# Altium footprint library 接口.PCBLIB: 266 footprints (part 10 of 17)
Each footprint in its own frame and in the unit in brackets; x right, y up, seen from the top. Pads: shape width x height; smd on the part's side, far side on the other; paste and mask are expansions set on the pad; w line width, h text height; cw(c..) or ccw(c..) is an arc to the next point about the centre after c.
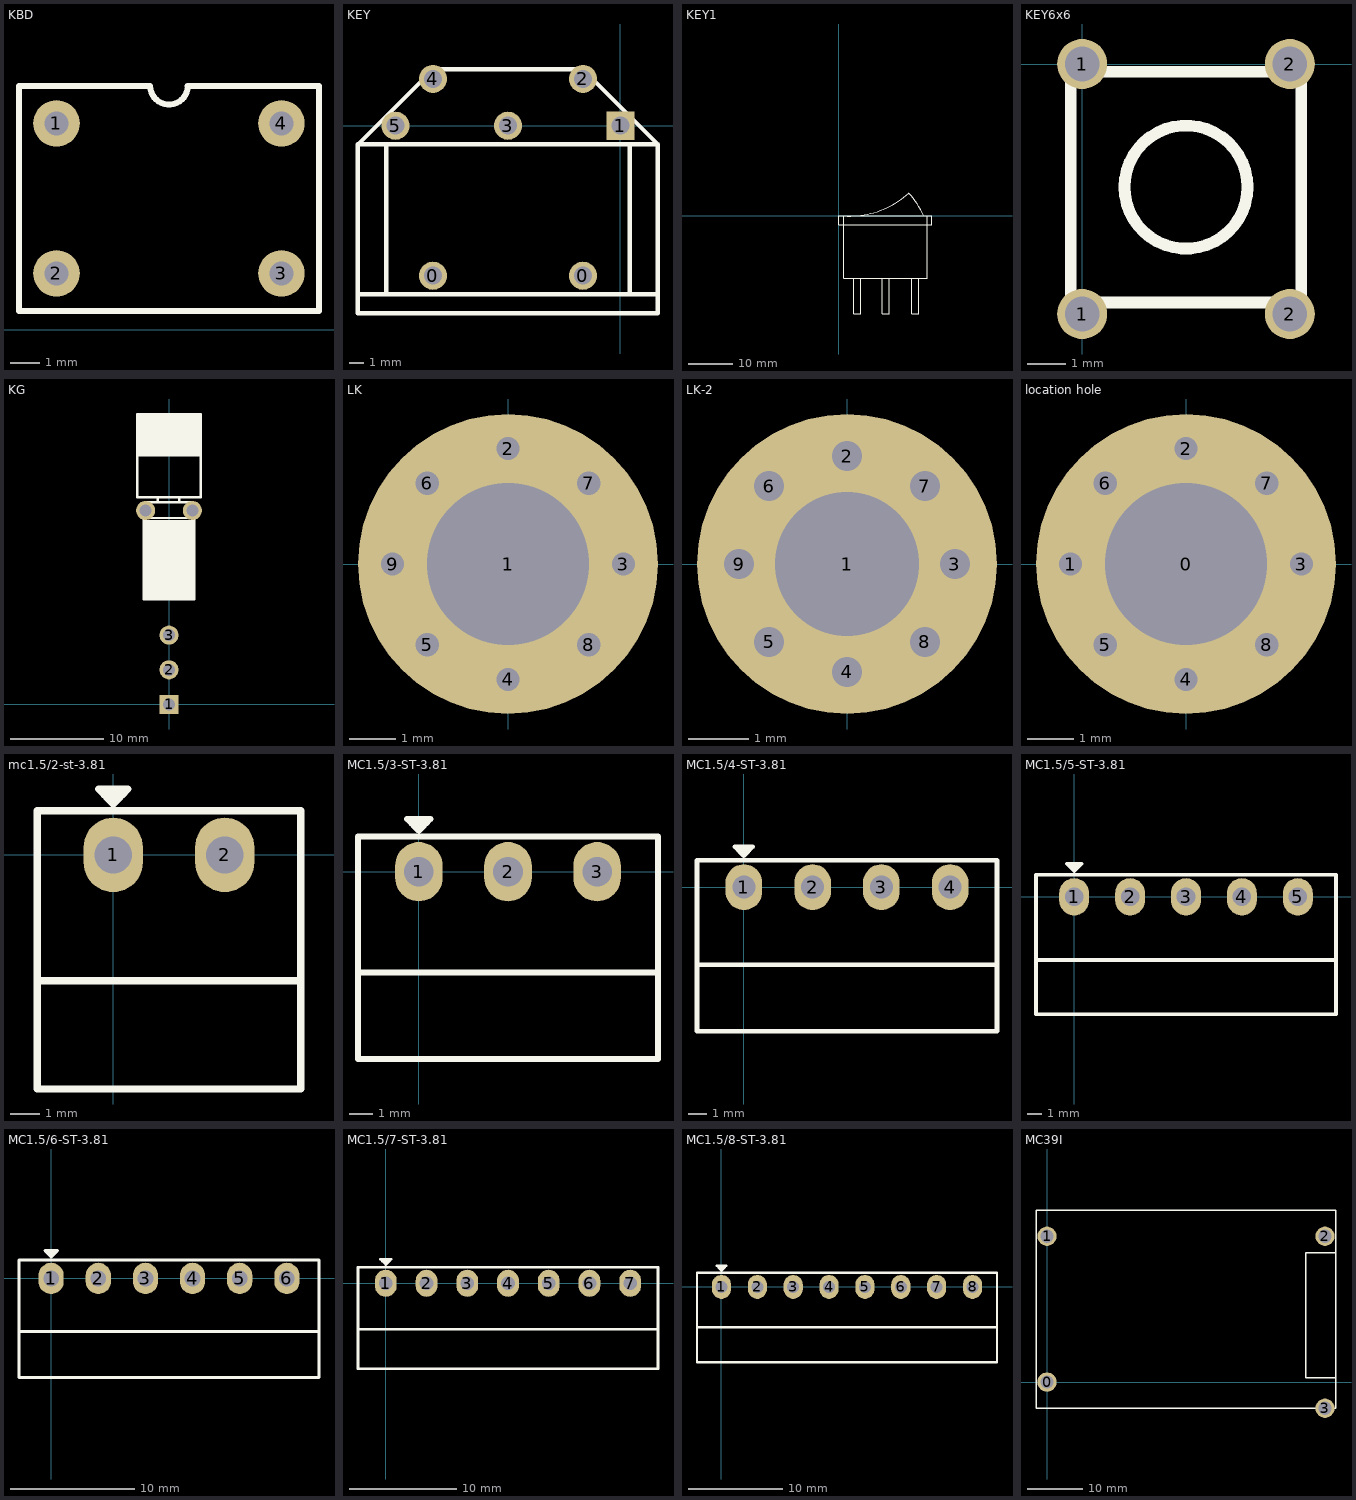
[diagram p9: the footprints below, top view; thin cyan lines are the x and y axes]

## KBD [mil]
pads (4):
  round 62 hole 32: 1(-375,275) 2(-375,75) 3(-75,75) 4(-75,275)
TopOverlay:
  lines w8: -425,25 -25,25 -25,325 -200,325 cw(c-225,325) -250,325 -425,325 -425,25

## KEY [mil]
pads (7):
  round 75 hole 48: 0(-500,-400) 0(-100,-400) 2(-100,125) 3(-300,0) 4(-500,125) 5(-600,0)
  rect 75x75 hole 48: 1(0,0)
TopOverlay:
  lines w12: -700,-450 100,-450 ; -625,-450 -625,-50 ; 25,-450 25,-50 ; -700,-50 100,-50 ; -700,-50 -700,-500 100,-500 100,-50 ; -700,-50 -500,150 -100,150 100,-50

## KEY1 [mil]
TopOverlay:
  lines w6: 43.31,0 43.31,-551.18 783.46,-551.18 783.46,0 ; 133.86,-551.18 133.86,-866.14 196.85,-866.14 196.85,-555.12 ; 385.83,-551.18 385.83,-866.14 448.82,-866.14 448.82,-555.12 ; 645.67,-551.18 645.67,-866.14 708.66,-866.14 708.66,-555.12 ; 0,-78.74 826.77,-78.74 826.77,0 0,0 0,-78.74
  lines w10: 47.24,0 ccw(c94.49,783.46) 621.89,202.17 cw(c43.31,-314.96) 752.43,0.2

## KEY6x6 [mm]
pads (4):
  round 1.3 hole 0.9: 1(0,-6.5) 1(0,0) 2(5.4,-6.5) 2(5.4,0)
TopOverlay:
  circle w0.305: c2.7,-3.2 r1.6
  lines w0.305: -0.3,-6.2 5.7,-6.2 5.7,-0.2 -0.3,-0.2 -0.3,-6.2

## KG [mil]
pads (5):
  rect 80x80 hole 50: 1(0,0)
  round 80 hole 50: 2(0,145.67) 3(0,291.34) ""(-98.42,814.96) ""(98.42,814.96)
TopOverlay:
  rectangle: -106.3,444.88 106.3,775.59
  rectangle: -129.92,1051.18 129.92,1216.54
  lines w10: -129.92,1047.24 133.86,1047.24 ; -102.36,850.39 98.42,850.39 ; -47.24,854.33 -47.24,866.14 ; 43.31,854.33 43.31,870.08 ; -133.86,870.08 133.86,870.08 133.86,877.95 133.86,1220.47 -133.86,1220.47 -133.86,1212.6 -133.86,870.08 ; -106.3,440.94 -106.3,783.47 106.3,783.47 106.3,440.94 -106.3,440.94

## LK [mm]
pads (9):
  round 6.5 hole 3.5: 1(0,0)
  round 1 hole 0.5: 2(0,2.5) 3(2.5,0) 4(0,-2.5) 5(-1.75,-1.75) 6(-1.75,1.75) 7(1.75,1.75) 8(1.75,-1.75) 9(-2.5,0)

## LK-2 [mm]
pads (9):
  round 5 hole 2.4: 1(0,0)
  round 1 hole 0.5: 2(0,1.8) 3(1.8,0) 4(0,-1.8) 5(-1.3,-1.3) 6(-1.3,1.3) 7(1.3,1.3) 8(1.3,-1.3) 9(-1.8,0)

## location hole [mm]
pads (9):
  round 6.5 hole 3.5: 0(0,0)
  round 1 hole 0.5: 1(-2.5,0) 2(0,2.5) 3(2.5,0) 4(0,-2.5) 5(-1.75,-1.75) 6(-1.75,1.75) 7(1.75,1.75) 8(1.75,-1.75)

## mc1.5/2-st-3.81 [mil]
pads (2):
  oval 80x100 hole 50: 1(0,0) 2(150,0)
TopOverlay:
  lines w10: -102.36,-169.29 252.36,-169.29 ; -12.04,80.93 12.03,80.93 19.68,88.58 ; 19.68,88.58 0,68.9 -19.68,88.58 19.68,88.58 ; -102.36,-314.96 -102.36,59.06 252.36,59.06 252.36,-314.96 -102.36,-314.96

## MC1.5/3-ST-3.81 [mil]
pads (3):
  oval 80x100 hole 50: 1(0,0) 2(150,0) 3(300,0)
TopOverlay:
  lines w10: -102.36,-169.29 402.36,-169.29 ; -12.04,80.93 12.03,80.93 19.68,88.58 ; 19.68,88.58 -19.68,88.58 0,68.9 19.68,88.58 ; -102.36,-314.96 402.36,-314.96 402.36,59.06 -102.36,59.06 -102.36,-314.96

## MC1.5/4-ST-3.81 [mil]
pads (4):
  oval 80x100 hole 50: 1(0,0) 2(150,0) 3(300,0) 4(450,0)
TopOverlay:
  lines w10: -102.36,-169.29 552.36,-169.29 ; -12.04,80.93 12.03,80.93 19.68,88.58 ; 19.68,88.58 -19.68,88.58 0,68.9 19.68,88.58 ; -102.36,-314.96 -102.36,59.06 552.36,59.06 552.36,-314.96 -102.36,-314.96

## MC1.5/5-ST-3.81 [mil]
pads (5):
  oval 80x100 hole 50: 1(0,0) 2(150,0) 3(300,0) 4(450,0) 5(600,0)
TopOverlay:
  lines w10: -102.36,-169.29 702.36,-169.29 ; -12.04,80.93 12.03,80.93 19.68,88.58 ; 19.68,88.58 -19.68,88.58 0,68.9 19.68,88.58 ; -102.36,-314.96 -102.36,59.06 702.36,59.06 702.36,-314.96 -102.36,-314.96

## MC1.5/6-ST-3.81 [mil]
pads (6):
  oval 80x100 hole 50: 1(0,0) 2(150,0) 3(300,0) 4(450,0) 5(600,0) 6(750,0)
TopOverlay:
  lines w10: -102.36,-169.29 852.36,-169.29 ; -12.04,80.93 12.03,80.93 19.68,88.58 ; 19.68,88.58 0,68.9 -19.68,88.58 19.68,88.58 ; -102.36,-314.96 852.36,-314.96 852.36,59.06 -102.36,59.06 -102.36,-314.96

## MC1.5/7-ST-3.81 [mil]
pads (7):
  oval 80x100 hole 50: 1(0,0) 2(150,0) 3(300,0) 4(450,0) 5(600,0) 6(750,0) 7(900,0)
TopOverlay:
  lines w10: -102.36,-169.29 1002.36,-169.29 ; -12.04,80.93 12.03,80.93 19.68,88.58 ; 19.68,88.58 -19.68,88.58 0,68.9 19.68,88.58 ; -102.36,-314.96 -102.36,59.06 1002.36,59.06 1002.36,-314.96 -102.36,-314.96

## MC1.5/8-ST-3.81 [mil]
pads (8):
  oval 80x100 hole 50: 1(0,0) 2(150,0) 3(300,0) 4(450,0) 5(600,0) 6(750,0) 7(900,0) 8(1050,0)
TopOverlay:
  lines w10: -102.36,-169.29 1152.36,-169.29 ; -12.04,80.93 12.03,80.93 19.68,88.58 ; 19.68,88.58 -19.68,88.58 0,68.9 19.68,88.58 ; -102.36,-314.96 1152.36,-314.96 1152.36,59.06 -102.36,59.06 -102.36,-314.96

## MC39I [mm]
pads (4):
  round 3.5 hole 2.4: 0(0,0) 1(0,26.5) 2(50.5,26.5) 3(50.5,-4.75)
TopOverlay:
  lines w0.254: 52.5,0.75 47,0.75 47,23.5 52.5,23.5 ; -2,-4.75 52.5,-4.75 52.5,31.25 -2,31.25 -2,-4.75